# Altium schematic symbol library Schlib.SchLib: 6 symbols
Pins are listed as number, name and electrical type; pins without a type are passive.

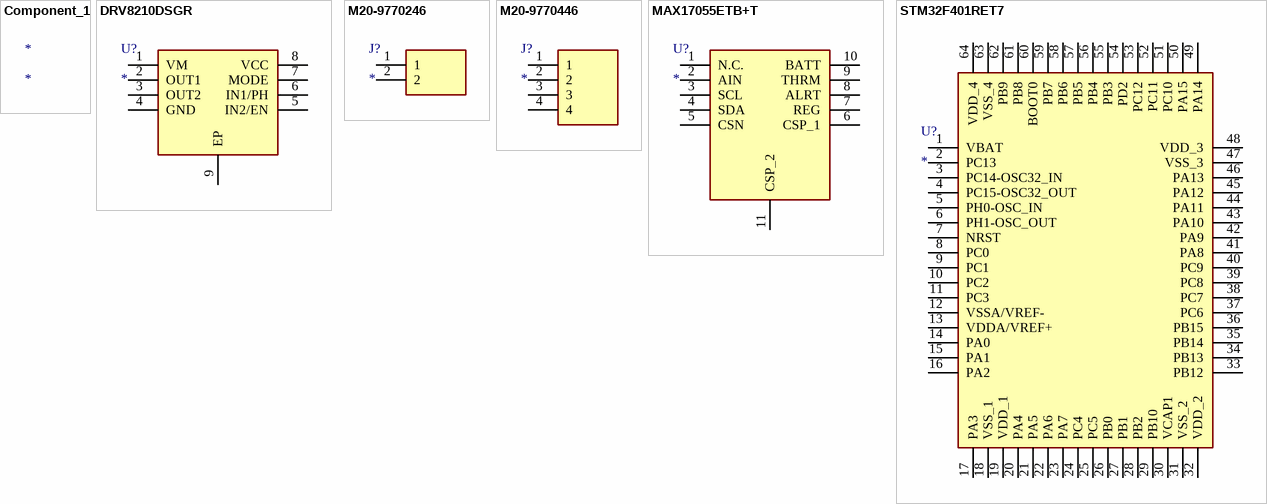
[diagram p0: symbols Component_1 to STM32F401RET7]

## Component_1
designator *

## DRV8210DSGR
designator U?
12-V, 1.76-A H-bridge motor driver with auto sleep mode; Manufacturer_Name: Texas Instruments; Manufacturer_Part_Number: DRV8210DSGR; Description: H-Bridge Motor Driver T/R; Datasheet Link: https://www.ti.com/lit/ds/symlink/drv8210.pdf?ts=1614758859747&ref_url=https%253A%252F%252Fwww.mouser.in%252F; Height: 0.8mm; Mouser Part Number: 595-DRV8210DSGR; Mouser Price/Stock: https://www.mouser.co.uk/ProductDetail/Texas-Instruments/DRV8210DSGR?qs=eP2BKZSCXI5lUYUnPPSnvA%3D%3D; Arrow Part Number: DRV8210DSGR; Arrow Price/Stock: https://www.arrow.com/en/products/drv8210dsgr/texas-instruments?region=nac
footprint SON50P200X200X80-9N
pins: 1 VM, 2 OUT1, 3 OUT2, 4 GND, 5 IN2/EN, 6 IN1/PH, 7 MODE, 8 VCC, 9 EP

## M20-9770246
designator J?
Connector; Manufacturer_Name: Harwin; Manufacturer_Part_Number: M20-9770246; Description: 2.54mm (0.1") Pitch SIL Vertical Throughboard Pin Header; Datasheet Link: https://cdn.harwin.com/pdfs/M20-977.pdf; Height: 7.62mm; Mouser Part Number: 855-M20-9770246; Mouser Price/Stock: https://www.mouser.co.uk/ProductDetail/Harwin/M20-9770246?qs=ulE8k0yEMYYDEpAuGHphJw%3D%3D
footprint HDRV2W66P0X254_1X2_508X254X762P
pins: 1, 2

## M20-9770446
designator J?
Connector; Manufacturer_Name: Harwin; Manufacturer_Part_Number: M20-9770446; Description: 2.54mm (0.1") Pitch SIL Vertical Throughboard Pin Header; Datasheet Link: https://cdn.harwin.com/pdfs/M20-977.pdf; Height: 8.34mm; Mouser Part Number: 855-M20-9770446; Mouser Price/Stock: https://www.mouser.co.uk/ProductDetail/Harwin/M20-9770446?qs=ulE8k0yEMYbCPpMPHeYh4w%3D%3D
footprint HDRV4W64P0X254_1X4_1016X254X834P
pins: 1, 2, 3, 4

## MAX17055ETB+T
designator U?
IC BATT MON MULTI-CHEM 1C 10TDFN; Manufacturer_Name: Analog Devices; Manufacturer_Part_Number: MAX17055ETB+T; Description: Battery Management Stand-Alone Model Gauge m5 Fuel Gauge; Datasheet Link: https://datasheets.maximintegrated.com/en/ds/MAX17055.pdf; Height: 0.8mm; Mouser Part Number: 700-MAX17055ETB+T; Mouser Price/Stock: https://www.mouser.co.uk/ProductDetail/Analog-Devices-Maxim-Integrated/MAX17055ETB%2bT?qs=u4fy%2FsgLU9MiRW9MH4Zm9g%3D%3D; Arrow Part Number: MAX17055ETB+T; Arrow Price/Stock: https://www.arrow.com/en/products/max17055etbt/maxim-integrated?region=nac
footprint SON40P250X200X80-11N
pins: 1 N.C., 2 AIN, 3 SCL, 4 SDA, 5 CSN, 6 CSP_1, 7 REG, 8 ALRT, 9 THRM, 10 BATT, 11 CSP_2

## STM32F401RET7
designator U?
ARM Microcontrollers - MCU STM32 Dynamic Efficiency MCU, Arm Cortex-M4 core DSP & FPU; Manufacturer_Name: STMicroelectronics; Manufacturer_Part_Number: STM32F401RET7; Description: MCU 32-bit ARM Cortex M4 RISC 512KB Flash 1.8V/2.5V/3.3V 64-Pin LQFP Tray; Datasheet Link: https://www.arrow.com/en/products/stm32f401ret7/stmicroelectronics; Height: 1.6mm; Mouser Part Number: 511-STM32F401RET7; Mouser Price/Stock: https://www.mouser.co.uk/ProductDetail/STMicroelectronics/STM32F401RET7?qs=aVyJF2WnouSdX21y3k%2FIAA%3D%3D; Arrow Part Number: STM32F401RET7; Arrow Price/Stock: null?region=nac
footprint QFP50P1200X1200X160-64N
pins: 1 VBAT, 2 PC13, 3 PC14-OSC32_IN, 4 PC15-OSC32_OUT, 5 PH0-OSC_IN, 6 PH1-OSC_OUT, 7 NRST, 8 PC0, 9 PC1, 10 PC2, 11 PC3, 12 VSSA/VREF-, 13 VDDA/VREF+, 14 PA0, 15 PA1, 16 PA2, 17 PA3, 18 VSS_1, 19 VDD_1, 20 PA4, 21 PA5, 22 PA6, 23 PA7, 24 PC4, 25 PC5, 26 PB0, 27 PB1, 28 PB2, 29 PB10, 30 VCAP1, 31 VSS_2, 32 VDD_2, 33 PB12, 34 PB13, 35 PB14, 36 PB15, 37 PC6, 38 PC7, 39 PC8, 40 PC9, 41 PA8, 42 PA9, 43 PA10, 44 PA11, 45 PA12, 46 PA13, 47 VSS_3, 48 VDD_3, 49 PA14, 50 PA15, 51 PC10, 52 PC11, 53 PC12, 54 PD2, 55 PB3, 56 PB4, 57 PB5, 58 PB6, 59 PB7, 60 BOOT0, 61 PB8, 62 PB9, 63 VSS_4, 64 VDD_4